# EAGLE library part AE-TC78H653FTG (library AE-TC78H653FTG)
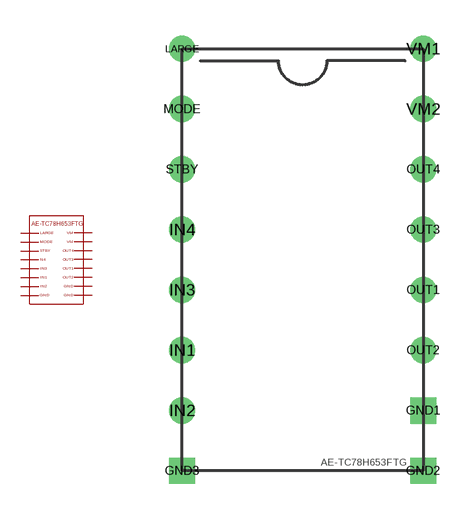
[diagram p0: symbol with the pads of AE-TC78H653FTG; footprint AE-TC78H653FTG]

Designator prefix -

## AE-TC78H653FTG  [AE-TC78H653FTG]
GND1  GND1
GND2  GND2
GND3  GND3
IN1  IN1
IN2  IN2
IN3  IN3
IN4  IN4
LARGE  LARGE
MODE  MODE
OUT1  OUT1
OUT2  OUT2
OUT3  OUT3
OUT4  OUT4
STBY  STBY
VM1  VM1
VM2  VM2

## Footprint AE-TC78H653FTG (pad centres in mm)
drill 0.6 square: GND1 10.16,2.54; GND2 10.16,0; GND3 0,0
drill 0.6: IN1 0,5.08; IN2 0,2.54; IN3 0,7.62; IN4 0,10.16; LARGE 0,17.78; MODE 0,15.24; OUT1 10.16,7.62; OUT2 10.16,5.08; OUT3 10.16,10.16; OUT4 10.16,12.7; STBY 0,12.7; VM1 10.16,17.78; VM2 10.16,15.24